# EAGLE library part TL082 (library act-global-nolan)
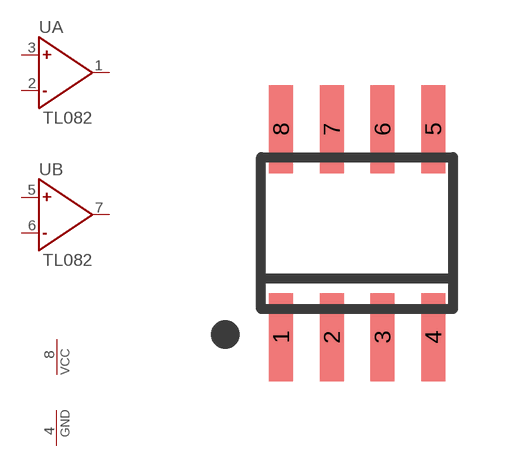
[diagram p24: symbol with the pads of SO08; footprint SO08]

Designator prefix -; gates A=OPAMP B=OPAMP IC$=PWRN

## TL082  [SO08]
1  A:OUT
2  A:-
3  A:+
4  IC$:GND  pwr
5  B:+
6  B:-
7  B:OUT
8  IC$:VCC  pwr

## Footprint SO08 (pad centres in mm)
SMALL OUTLINE INTEGRATED CIRCUIT body 3.9 mm/JEDEC MS-012AA
smd 0.6 x 2.2: 1 -1.905,-2.6; 2 -0.635,-2.6; 3 0.635,-2.6; 4 1.905,-2.6; 5 1.905,2.6; 6 0.635,2.6; 7 -0.635,2.6; 8 -1.905,2.6